# Altium schematic symbol library Schlib1.SchLib: 3 symbols
Pins are listed as number, name and electrical type; pins without a type are passive.

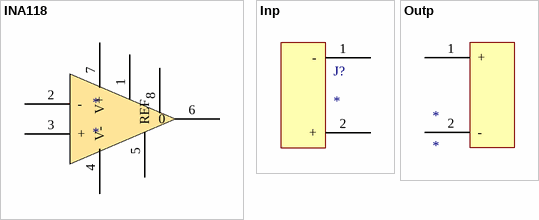
[diagram p0: symbols INA118 to Outp]

## INA118
designator *
pins: 1, 2 -, 3 +, 4 V-, 5 REF, 6 0, 7 V+, 8

## Inp
designator J?
pins: 1 -, 2 +

## Outp
designator *
pins: 1 +, 2 -